# Altium schematic symbol library transistor.SchLib: 1 symbol
Pins are listed as number, name and electrical type; pins without a type are passive.

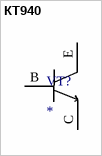
[diagram p0: symbol КТ940]

## КТ940
designator VT?
footprint КТ940 (VT&)
pins: B, C, E